# EAGLE library part MT25QL256ABA8ESF-0AAT (library MT25QL256ABA8ESF-0AAT)
NOR Flash SPI FLASH NOR SLC 64MX4 SOIC Source: Datasheet <https://media-www.micron.com/-/media/client/global/documents/products/data-sheet/nor-flash/serial-nor/mt25q/die-rev-a/mt25q_qljs_l_256_aba_0.pdf?rev=3228e4f0253d4c42a5184cf2007a21dc>
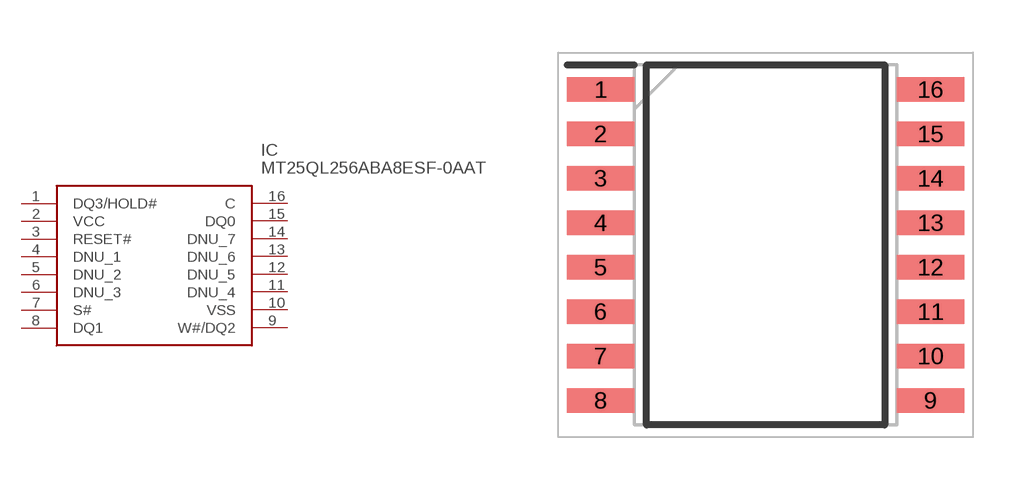
[diagram p0: symbol with the pads of SOIC127P1032X265-16N; footprint SOIC127P1032X265-16N]

Designator prefix IC

## MT25QL256ABA8ESF-0AAT (Description: NOR Flash SPI FLASH NOR SLC 64MX4 SOIC; Height: 2.65mm; Manufacturer_Name: Micron; Manufacturer_Part_Number: MT25QL256ABA8ESF-0AAT; Mouser_Part_Number: 340-279831-TRAY; Mouser_Price-Stock: https://www.mouser.co.uk/ProductDetail/Micron/MT25QL256ABA8ESF-0AAT?qs=rrS6PyfT74foJ%2FxDvfgDOA%3D%3D)  [SOIC127P1032X265-16N]
1  DQ3/HOLD#
2  VCC
3  RESET#
4  DNU_1
5  DNU_2
6  DNU_3
7  S#
8  DQ1
9  W#/DQ2
10  VSS
11  DNU_4
12  DNU_5
13  DNU_6
14  DNU_7
15  DQ0
16  C

## Footprint SOIC127P1032X265-16N (pad centres in mm)
16-Pin SOP2 – 300 Mils
smd 1.925 x 0.7: 1 -4.712,4.445; 2 -4.712,3.175; 3 -4.712,1.905; 4 -4.712,0.635; 5 -4.712,-0.635; 6 -4.712,-1.905; 7 -4.712,-3.175; 8 -4.712,-4.445; 9 4.712,-4.445; 10 4.712,-3.175; 11 4.712,-1.905; 12 4.712,-0.635; 13 4.712,0.635; 14 4.712,1.905; 15 4.712,3.175; 16 4.712,4.445